# Altium footprint library WCH.PcbLib: 46 footprints (part 2 of 3)
Each footprint in its own frame and in the unit in brackets; x right, y up, seen from the top. Pads: shape width x height; smd on the part's side, far side on the other; paste and mask are expansions set on the pad; w line width, h text height; cw(c..) or ccw(c..) is an arc to the next point about the centre after c.
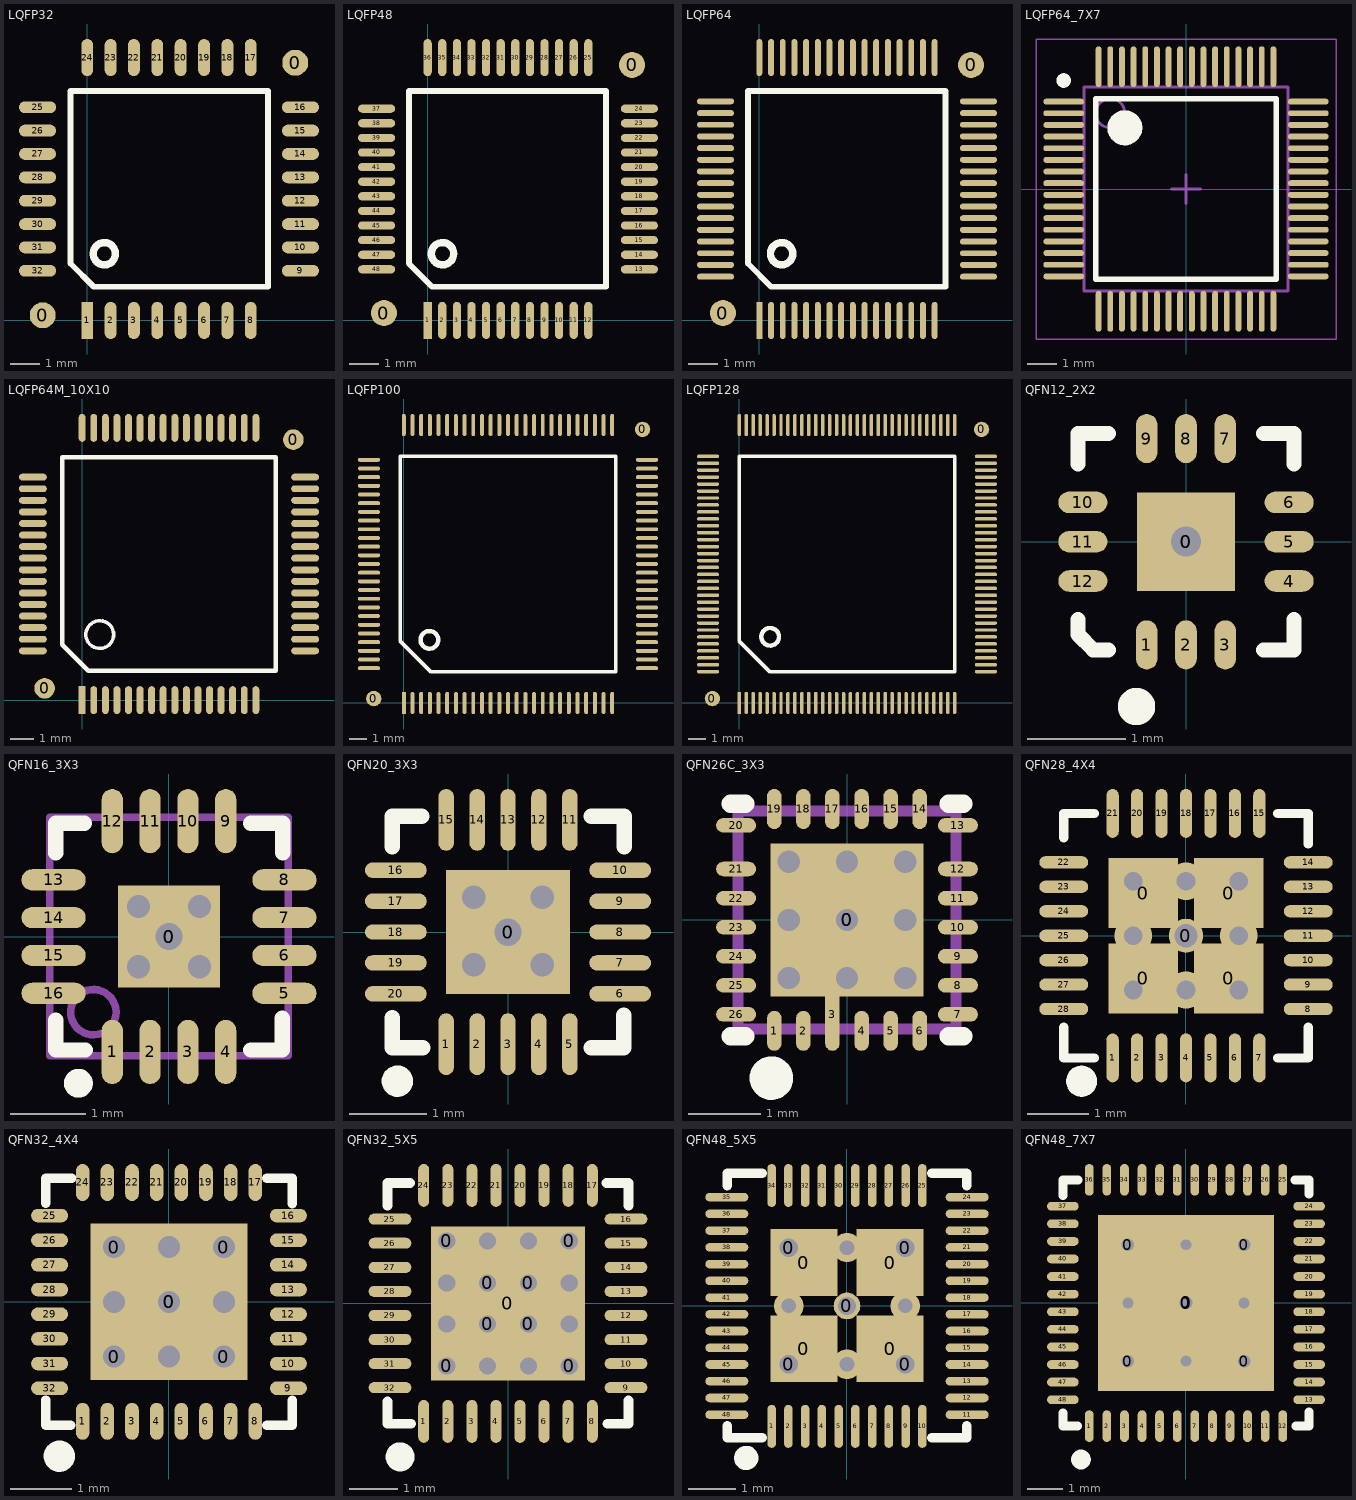
[diagram p1: the footprints below, top view; thin cyan lines are the x and y axes]

## LQFP32 [mil]
pads (34):
  round 35 smd: 0(-60,7) 0(280.47,347.47)
  rect 16x50 smd: 1(0,0)
  oval 16x50 smd: 2(31.5,0) 3(62.99,0) 4(94.49,0) 5(125.98,0) 6(157.48,0) 7(188.98,0) 8(220.47,0) 17(220.47,354.5) 18(188.98,354.5) 19(157.48,354.5) 20(125.98,354.5) 21(94.49,354.5) 22(62.99,354.5) 23(31.5,354.5) 24(0,354.5)
  oval 50x16 smd: 9(287.5,67) 10(287.5,98.5) 11(287.5,129.99) 12(287.5,161.49) 13(287.5,192.98) 14(287.5,224.48) 15(287.5,255.98) 16(287.5,287.47) 25(-67,287.47) 26(-67,255.98) 27(-67,224.48) 28(-67,192.98) 29(-67,161.49) 30(-67,129.99) 31(-67,98.5) 32(-67,67)
Top Overlay:
  circle w10: c23,90 r15
  lines w7.87: -22.42,76.66 8.83,45.42
  lines w8: -22.42,76.66 -22.42,309.42 243.58,309.42 243.58,45.42 8.83,45.42
3D body "lqfp32.step": height 59.06, standoff 0.79, extent -66.93,0.08 287.4,354.41

## LQFP48 [mm]
pads (50):
  round 0.889 smd: 0(-1.496,0.254) 0(6.996,8.746)
  rect 0.28x1.27 smd mask+0.051: 1(0,0)
  oval 0.28x1.27 smd mask+0.051: 2(0.5,0) 3(1,0) 4(1.5,0) 5(2,0) 6(2.5,0) 7(3,0) 8(3.5,0) 9(4,0) 10(4.5,0) 11(5,0) 12(5.5,0) 25(5.5,9) 26(5,9) 27(4.5,9) 28(4,9) 29(3.5,9) 30(3,9) 31(2.5,9) 32(2,9) 33(1.5,9) 34(1,9) 35(0.5,9) 36(0,9)
  oval 1.27x0.28 smd mask+0.051: 13(7.25,1.75) 14(7.25,2.25) 15(7.25,2.75) 16(7.25,3.25) 17(7.25,3.75) 18(7.25,4.25) 19(7.25,4.75) 20(7.25,5.25) 21(7.25,5.75) 22(7.25,6.25) 23(7.25,6.75) 24(7.25,7.25) 37(-1.75,7.25) 38(-1.75,6.75) 39(-1.75,6.25) 40(-1.75,5.75) 41(-1.75,5.25) 42(-1.75,4.75) 43(-1.75,4.25) 44(-1.75,3.75) 45(-1.75,3.25) 46(-1.75,2.75) 47(-1.75,2.25) 48(-1.75,1.75)
Top Overlay:
  circle w0.254: c0.508,2.286 r0.381
  lines w0.2: -0.646,1.947 0.148,1.154
  lines w0.203: -0.646,1.947 -0.646,7.859 6.111,7.859 6.111,1.154 0.148,1.154
3D body "LQFP48.STEP": height 1.6, standoff 0, extent -1.75,0 7.25,9

## LQFP64 [mm]
pads (66):
  round 0.889 smd: 0(-1.246,0.254) 0(7.246,8.746)
  rect 0.203x1.27 smd mask+0.051: 1(0,0)
  oval 0.203x1.27 smd mask+0.051: 2(0.4,0) 3(0.8,0) 4(1.2,0) 5(1.6,0) 6(2,0) 7(2.4,0) 8(2.8,0) 9(3.2,0) 10(3.6,0) 11(4,0) 12(4.4,0) 13(4.8,0) 14(5.2,0) 15(5.6,0) 16(6,0) 33(6,9) 34(5.6,9) 35(5.2,9) 36(4.8,9) 37(4.4,9) 38(4,9) 39(3.6,9) 40(3.2,9) 41(2.8,9) 42(2.4,9) 43(2,9) 44(1.6,9) 45(1.2,9) 46(0.8,9) 47(0.4,9) 48(0,9)
  oval 1.27x0.203 smd mask+0.051: 17(7.5,1.5) 18(7.5,1.9) 19(7.5,2.3) 20(7.5,2.7) 21(7.5,3.1) 22(7.5,3.5) 23(7.5,3.9) 24(7.5,4.3) 25(7.5,4.7) 26(7.5,5.1) 27(7.5,5.5) 28(7.5,5.9) 29(7.5,6.3) 30(7.5,6.7) 31(7.5,7.1) 32(7.5,7.5) 49(-1.5,7.5) 50(-1.5,7.1) 51(-1.5,6.7) 52(-1.5,6.3) 53(-1.5,5.9) 54(-1.5,5.5) 55(-1.5,5.1) 56(-1.5,4.7) 57(-1.5,4.3) 58(-1.5,3.9) 59(-1.5,3.5) 60(-1.5,3.1) 61(-1.5,2.7) 62(-1.5,2.3) 63(-1.5,1.9) 64(-1.5,1.5)
Top Overlay:
  circle w0.254: c0.762,2.286 r0.381
  lines w0.2: -0.392,1.947 0.402,1.154
  lines w0.203: -0.392,1.947 -0.392,7.859 6.365,7.859 6.365,1.154 0.402,1.154
3D body "LQFP64_7x7mm.step": height 1.55, standoff -0.03, extent -1.5,0 7.5,9

## LQFP64_7X7 [mm] "TSQFP, 64-Leads, Body 7.00x7.00mm, Pitch 0.40mm, IPC Medium Density 焊盘缩窄"
height 1.5
pads (64):
  oval 1.4x0.203 smd mask+0.051: 1(-4.2,3) 2(-4.2,2.6) 3(-4.2,2.2) 4(-4.2,1.8) 5(-4.2,1.4) 6(-4.2,1) 7(-4.2,0.6) 8(-4.2,0.2) 9(-4.2,-0.2) 10(-4.2,-0.6) 11(-4.2,-1) 12(-4.2,-1.4) 13(-4.2,-1.8) 14(-4.2,-2.2) 15(-4.2,-2.6) 16(-4.2,-3) 33(4.2,-3) 34(4.2,-2.6) 35(4.2,-2.2) 36(4.2,-1.8) 37(4.2,-1.4) 38(4.2,-1) 39(4.2,-0.6) 40(4.2,-0.2) 41(4.2,0.2) 42(4.2,0.6) 43(4.2,1) 44(4.2,1.4) 45(4.2,1.8) 46(4.2,2.2) 47(4.2,2.6) 48(4.2,3)
  oval 0.203x1.4 smd mask+0.051: 17(-3,-4.2) 18(-2.6,-4.2) 19(-2.2,-4.2) 20(-1.8,-4.2) 21(-1.4,-4.2) 22(-1,-4.2) 23(-0.6,-4.2) 24(-0.2,-4.2) 25(0.2,-4.2) 26(0.6,-4.2) 27(1,-4.2) 28(1.4,-4.2) 29(1.8,-4.2) 30(2.2,-4.2) 31(2.6,-4.2) 32(3,-4.2) 49(3,4.2) 50(2.6,4.2) 51(2.2,4.2) 52(1.8,4.2) 53(1.4,4.2) 54(1,4.2) 55(0.6,4.2) 56(0.2,4.2) 57(-0.2,4.2) 58(-0.6,4.2) 59(-1,4.2) 60(-1.4,4.2) 61(-1.8,4.2) 62(-2.2,4.2) 63(-2.6,4.2) 64(-3,4.2)
Top Overlay:
  circle w0.6: c-2.1,2.1 r0.3
  circle w0.25: c-4.2,3.725 r0.125
  lines w0.2: -3.1,-3.1 3.1,-3.1 3.1,3.1 -3.1,3.1 -3.1,-3.1
Mechanical 13:
  circle w0.1: c-2.6,2.6 r0.5
  lines w0.1: -3.5,-3.5 3.5,-3.5 3.5,3.5 -3.5,3.5 -3.5,-3.5
Mechanical 15:
  lines w0.05: -5.15,-5.15 5.15,-5.15 5.15,5.15 -5.15,5.15 -5.15,-5.15
  lines w0.1: -0.5,0 0.5,0 ; 0,-0.5 0,0.5
3D body "LQFP64_7X7.step": height 1.5, standoff 0, extent -4.5,-4.5 4.5,4.5

## LQFP64M_10X10 [mm]
pads (66):
  round 0.889 smd: 0(-1.619,0.508) 0(9.119,11.246)
  rect 0.3x1.2 smd mask+0.051: 1(0,0)
  oval 0.3x1.2 smd mask+0.051: 2(0.5,0) 3(1,0) 4(1.5,0) 5(2,0) 6(2.5,0) 7(3,0) 8(3.5,0) 9(4,0) 10(4.5,0) 11(5,0) 12(5.5,0) 13(6,0) 14(6.5,0) 15(7,0) 16(7.5,0) 33(7.5,11.754) 34(7,11.754) 35(6.5,11.754) 36(6,11.754) 37(5.5,11.754) 38(5,11.754) 39(4.5,11.754) 40(4,11.754) 41(3.5,11.754) 42(3,11.754) 43(2.5,11.754) 44(2,11.754) 45(1.5,11.754) 46(1,11.754) 47(0.5,11.754) 48(0,11.754)
  oval 1.2x0.3 smd mask+0.051: 17(9.627,2.127) 18(9.627,2.627) 19(9.627,3.127) 20(9.627,3.627) 21(9.627,4.127) 22(9.627,4.627) 23(9.627,5.127) 24(9.627,5.627) 25(9.627,6.127) 26(9.627,6.627) 27(9.627,7.127) 28(9.627,7.627) 29(9.627,8.127) 30(9.627,8.627) 31(9.627,9.127) 32(9.627,9.627) 49(-2.127,9.627) 50(-2.127,9.127) 51(-2.127,8.627) 52(-2.127,8.127) 53(-2.127,7.627) 54(-2.127,7.127) 55(-2.127,6.627) 56(-2.127,6.127) 57(-2.127,5.627) 58(-2.127,5.127) 59(-2.127,4.627) 60(-2.127,4.127) 61(-2.127,3.627) 62(-2.127,3.127) 63(-2.127,2.627) 64(-2.127,2.127)
Top Overlay:
  circle w0.152: c0.762,2.829 r0.6
  lines w0.2: -0.865,2.397 -0.865,10.492 8.365,10.492 8.365,1.262 0.27,1.262 -0.865,2.397
3D body "LQFP64.STEP": height 1.6, standoff 0, extent -2.25,-0.13 9.75,11.87

## LQFP100 [mm]
pads (102):
  round 0.889 smd: 0(-1.727,0.254) 0(13.746,15.748)
  rect 0.229x1.27 smd mask+0.051: 1(0,0)
  oval 0.229x1.27 smd mask+0.051: 2(0.5,0) 3(1,0) 4(1.5,0) 5(2,0) 6(2.5,0) 7(3,0) 8(3.5,0) 9(4,0) 10(4.5,0) 11(5,0) 12(5.5,0) 13(6,0) 14(6.5,0) 15(7,0) 16(7.5,0) 17(8,0) 18(8.5,0) 19(9,0) 20(9.5,0) 21(10,0) 22(10.5,0) 23(11,0) 24(11.5,0) 25(12,0) 51(12,16) 52(11.5,16) 53(11,16) 54(10.5,16) 55(10,16) 56(9.5,16) 57(9,16) 58(8.5,16) 59(8,16) 60(7.5,16) 61(7,16) 62(6.5,16) 63(6,16) 64(5.5,16) 65(5,16) 66(4.5,16) 67(4,16) 68(3.5,16) 69(3,16) 70(2.5,16) 71(2,16) 72(1.5,16) 73(1,16) 74(0.5,16) 75(0,16)
  oval 1.27x0.229 smd mask+0.051: 26(14,2) 27(14,2.5) 28(14,3) 29(14,3.5) 30(14,4) 31(14,4.5) 32(14,5) 33(14,5.5) 34(14,6) 35(14,6.5) 36(14,7) 37(14,7.5) 38(14,8) 39(14,8.5) 40(14,9) 41(14,9.5) 42(14,10) 43(14,10.5) 44(14,11) 45(14,11.5) 46(14,12) 47(14,12.5) 48(14,13) 49(14,13.5) 50(14,14) 76(-2,14) 77(-2,13.5) 78(-2,13) 79(-2,12.5) 80(-2,12) 81(-2,11.5) 82(-2,11) 83(-2,10.5) 84(-2,10) 85(-2,9.5) 86(-2,9) 87(-2,8.5) 88(-2,8) 89(-2,7.5) 90(-2,7) 91(-2,6.5) 92(-2,6) 93(-2,5.5) 94(-2,5) 95(-2,4.5) 96(-2,4) 97(-2,3.5) 98(-2,3) 99(-2,2.5) 100(-2,2)
Top Overlay:
  circle w0.254: c1.473,3.632 r0.508
  lines w0.2: -0.215,3.57 -0.215,14.215 12.215,14.215 12.215,1.785 1.57,1.785 -0.215,3.57
3D body "LQFP100.STEP": height 1.62, standoff -0.01, extent -2.072,-0.072 14.072,16.072

## LQFP128 [mm]
pads (130):
  round 0.889 smd: 0(-1.546,0.254) 0(13.946,15.746)
  rect 0.2x1.27 smd mask+0.051: 1(0,0)
  oval 0.2x1.27 smd mask+0.051: 2(0.4,0) 3(0.8,0) 4(1.2,0) 5(1.6,0) 6(2,0) 7(2.4,0) 8(2.8,0) 9(3.2,0) 10(3.6,0) 11(4,0) 12(4.4,0) 13(4.8,0) 14(5.2,0) 15(5.6,0) 16(6,0) 17(6.4,0) 18(6.8,0) 19(7.2,0) 20(7.6,0) 21(8,0) 22(8.4,0) 23(8.8,0) 24(9.2,0) 25(9.6,0) 26(10,0) 27(10.4,0) 28(10.8,0) 29(11.2,0) 30(11.6,0) 31(12,0) 32(12.4,0) 65(12.4,16) 66(12,16) 67(11.6,16) 68(11.2,16) 69(10.8,16) 70(10.4,16) 71(10,16) 72(9.6,16) 73(9.2,16) 74(8.8,16) 75(8.4,16) 76(8,16) 77(7.6,16) 78(7.2,16) 79(6.8,16) 80(6.4,16) 81(6,16) 82(5.6,16) 83(5.2,16) 84(4.8,16) 85(4.4,16) 86(4,16) 87(3.6,16) 88(3.2,16) 89(2.8,16) 90(2.4,16) 91(2,16) 92(1.6,16) 93(1.2,16) 94(0.8,16) 95(0.4,16) 96(0,16)
  oval 1.27x0.2 smd mask+0.051: 33(14.2,1.8) 34(14.2,2.2) 35(14.2,2.6) 36(14.2,3) 37(14.2,3.4) 38(14.2,3.8) 39(14.2,4.2) 40(14.2,4.6) 41(14.2,5) 42(14.2,5.4) 43(14.2,5.8) 44(14.2,6.2) 45(14.2,6.6) 46(14.2,7) 47(14.2,7.4) 48(14.2,7.8) 49(14.2,8.2) 50(14.2,8.6) 51(14.2,9) 52(14.2,9.4) 53(14.2,9.8) 54(14.2,10.2) 55(14.2,10.6) 56(14.2,11) 57(14.2,11.4) 58(14.2,11.8) 59(14.2,12.2) 60(14.2,12.6) 61(14.2,13) 62(14.2,13.4) 63(14.2,13.8) 64(14.2,14.2) 97(-1.8,14.2) 98(-1.8,13.8) 99(-1.8,13.4) 100(-1.8,13) 101(-1.8,12.6) 102(-1.8,12.2) 103(-1.8,11.8) 104(-1.8,11.4) 105(-1.8,11) 106(-1.8,10.6) 107(-1.8,10.2) 108(-1.8,9.8) 109(-1.8,9.4) 110(-1.8,9) 111(-1.8,8.6) 112(-1.8,8.2) 113(-1.8,7.8) 114(-1.8,7.4) 115(-1.8,7) 116(-1.8,6.6) 117(-1.8,6.2) 118(-1.8,5.8) 119(-1.8,5.4) 120(-1.8,5) 121(-1.8,4.6) 122(-1.8,4.2) 123(-1.8,3.8) 124(-1.8,3.4) 125(-1.8,3) 126(-1.8,2.6) 127(-1.8,2.2) 128(-1.8,1.8)
Top Overlay:
  circle w0.254: c1.778,3.81 r0.508
  lines w0.2: -0.015,3.57 1.77,1.785 12.415,1.785 12.415,14.215 -0.015,14.215 -0.015,3.57
3D body "LQFP128.step": height 1.6, standoff 0, extent -1.8,0 14.2,16

## QFN12_2X2 [mm]
pads (14):
  rect 1x1 smd paste+0 mask+0.051: 0(0,0)
  round 0.508 hole 0.305 mask+0.102: 0(0,0)
  oval 0.22x0.5 smd mask+0.051: 1(-0.4,-1.05) 2(0,-1.05) 3(0.4,-1.05) 7(0.4,1.05) 8(0,1.05) 9(-0.4,1.05)
  oval 0.5x0.22 smd mask+0.051: 4(1.05,-0.4) 5(1.05,0) 6(1.05,0.4) 10(-1.05,0.4) 11(-1.05,0) 12(-1.05,-0.4)
Top Overlay:
  circle w0.229: c-0.504,-1.677 r0.076
  lines w0.152: -1.1,-0.789 -1.1,-0.945 -0.945,-1.1 -0.789,-1.1 ; -1.1,0.789 -1.1,1.1 -0.789,1.1 ; 0.789,-1.1 1.1,-1.1 1.1,-0.789 ; 0.789,1.1 1.1,1.1 1.1,0.789
3D body "QFN12_2x2.step": height 0.6, standoff 0, extent -1.051,-1.051 1.051,1.051

## QFN16_3X3 [mm]
pads (18):
  rect 1.35x1.35 smd mask+0.051: 0(0,0)
  round 0.508 hole 0.356: 0(0,0)
  oval 0.28x0.85 smd mask+0.051: 1(-0.75,-1.526) 2(-0.25,-1.526) 3(0.25,-1.526) 4(0.75,-1.526) 9(0.75,1.526) 10(0.25,1.526) 11(-0.25,1.526) 12(-0.75,1.526)
  oval 0.85x0.28 smd mask+0.051: 5(1.526,-0.75) 6(1.526,-0.25) 7(1.526,0.25) 8(1.526,0.75) 13(-1.526,0.75) 14(-1.526,0.25) 15(-1.526,-0.25) 16(-1.526,-0.75)
via -0.405,0.399 diameter 0.508 hole 0.305
via 0.405,0.399 diameter 0.508 hole 0.305
via 0.405,-0.399 diameter 0.508 hole 0.305
via -0.405,-0.399 diameter 0.508 hole 0.305
Top Overlay:
  circle w0.229: c-1.198,-1.94 r0.076
  lines w0.203: -1.497,-1.108 -1.497,-1.5 -1.105,-1.5 ; -1.497,1.105 -1.497,1.5 -1.118,1.5 ; 1.079,-1.5 1.5,-1.5 1.5,-1.08 ; 1.082,1.5 1.503,1.5 1.503,1.108
Mechanical 13:
  circle w0.1: c-1,-1 r0.3
  lines w0.1: -1.575,-1.575 1.575,-1.575 1.575,1.575 -1.575,1.575 -1.575,-1.575
3D body "QFN-16_3x3.step": height 0.9, standoff 0, extent -1.501,-1.501 1.501,1.501

## QFN20_3X3 [mm]
pads (22):
  rect 1.6x1.6 smd mask+0.051: 0(0,0)
  round 0.508 hole 0.356: 0(0,0)
  oval 0.2x0.8 smd mask+0.051: 1(-0.8,-1.451) 2(-0.4,-1.451) 3(0,-1.451) 4(0.4,-1.451) 5(0.8,-1.451) 11(0.8,1.451) 12(0.4,1.451) 13(0,1.451) 14(-0.4,1.451) 15(-0.8,1.451)
  oval 0.8x0.2 smd mask+0.051: 6(1.451,-0.8) 7(1.451,-0.4) 8(1.451,0) 9(1.451,0.4) 10(1.451,0.8) 16(-1.451,0.8) 17(-1.451,0.4) 18(-1.451,0) 19(-1.451,-0.4) 20(-1.451,-0.8)
via 0.442,0.449 diameter 0.508 hole 0.305
via -0.442,-0.422 diameter 0.508 hole 0.305
via -0.442,0.449 diameter 0.508 hole 0.305
via 0.442,-0.422 diameter 0.508 hole 0.305
Top Overlay:
  circle w0.203: c-1.431,-1.93 r0.102
  lines w0.203: -1.497,-1.108 -1.497,-1.5 -1.105,-1.5 ; -1.497,1.105 -1.497,1.5 -1.118,1.5 ; 1.079,-1.5 1.5,-1.5 1.5,-1.08 ; 1.082,1.5 1.503,1.5 1.503,1.108
3D body "QFN20-3x3.STEP": height 0.81, standoff 0, extent -1.51,-1.51 1.51,1.51

## QFN26C_3X3 [mm]
pads (28):
  rect 2.1x2.1 smd mask+0.051: 0(0,0)
  round 0.6 hole 0.3 mask+0.051: 0(0,0)
  oval 0.2x0.55 smd mask+0.051: 1(-1,-1.525) 2(-0.6,-1.525) 4(0.2,-1.525) 5(0.6,-1.525) 6(1,-1.525) 14(1,1.525) 15(0.6,1.525) 16(0.2,1.525) 17(-0.2,1.525) 18(-0.6,1.525) 19(-1,1.525)
  oval 0.2x1 smd mask+0.051: 3(-0.2,-1.3)
  oval 0.55x0.2 smd mask+0.051: 7(1.525,-1.3) 8(1.525,-0.9) 9(1.525,-0.5) 10(1.525,-0.1) 11(1.525,0.3) 12(1.525,0.7) 13(1.525,1.3) 20(-1.525,1.3) 21(-1.525,0.7) 22(-1.525,0.3) 23(-1.525,-0.1) 24(-1.525,-0.5) 25(-1.525,-0.9) 26(-1.525,-1.3)
via -0.8,0.8 diameter 0.508 hole 0.305
via 0,0.8 diameter 0.508 hole 0.305
via 0.8,0.8 diameter 0.508 hole 0.305
via 0.8,0 diameter 0.508 hole 0.305
via 0.8,-0.8 diameter 0.508 hole 0.305
via 0,-0.8 diameter 0.508 hole 0.305
via -0.8,-0.8 diameter 0.508 hole 0.305
via -0.8,0 diameter 0.508 hole 0.305
Top Overlay:
  circle w0.3: c-1.04,-2.175 r0.15
  lines w0.254: -1.6,-1.6 -1.4,-1.6 ; -1.6,1.6 -1.4,1.6 ; 1.4,-1.6 1.6,-1.6 ; 1.4,1.6 1.6,1.6
Mechanical 15:
  lines w0.15: -1.5,-1.5 -1.5,1.5 1.5,1.5 1.5,-1.5 -1.5,-1.5
3D body "QFN-26C_3x3.STEP": height 0.75, standoff 0, extent -1.51,-1.51 1.51,1.51

## QFN28_4X4 [mm]
pads (33):
  rect 1.143x1.143 smd mask+0: 0(-0.699,-0.699) 0(-0.699,0.698) 0(0.699,-0.699) 0(0.699,0.698)
  round 0.559 hole 0.381 mask+0.051: 0(0,0)
  oval 0.2x0.8 smd mask+0.051: 1(-1.2,-2) 2(-0.8,-2) 3(-0.4,-2) 4(0,-2) 5(0.4,-2) 6(0.8,-2) 7(1.2,-2) 15(1.2,2) 16(0.8,2) 17(0.4,2) 18(0,2) 19(-0.4,2) 20(-0.8,2) 21(-1.2,2)
  oval 0.8x0.2 smd mask+0.051: 8(2,-1.2) 9(2,-0.8) 10(2,-0.4) 11(2,0) 12(2,0.4) 13(2,0.8) 14(2,1.2) 22(-2,1.2) 23(-2,0.8) 24(-2,0.4) 25(-2,0) 26(-2,-0.4) 27(-2,-0.8) 28(-2,-1.2)
via -0.864,-0.889 diameter 0.61 hole 0.305
via 0.864,-0.889 diameter 0.61 hole 0.305
via 0.864,0.889 diameter 0.61 hole 0.305
via -0.864,0.889 diameter 0.61 hole 0.305
via -0.864,0 diameter 0.61 hole 0.305
via 0.864,0 diameter 0.61 hole 0.305
via 0,-0.889 diameter 0.61 hole 0.305
via 0,0.889 diameter 0.61 hole 0.305
Top Overlay:
  circle w0.254: c-1.708,-2.381 r0.127
  lines w0.152: -2,-1.5 -2,-2 -1.5,-2 ; -2,1.6 -2,2 -1.5,2 ; 1.5,-2 2,-2 2,-1.5 ; 1.5,2 2,2 2,1.5
3D body "QFN28-4x4.STEP": height 0.75, standoff 0, extent -2,-2 2,2

## QFN32_4X4 [mm]
pads (38):
  round 0.508 hole 0.356: 0(-0.889,-0.887) 0(-0.889,0.887) 0(0,0) 0(0.889,-0.887) 0(0.889,0.887)
  rect 2.54x2.54 smd mask+0.051: 0(0,0)
  oval 0.22x0.6 smd mask+0.051: 1(-1.4,-1.936) 2(-1,-1.936) 3(-0.6,-1.936) 4(-0.2,-1.936) 5(0.2,-1.936) 6(0.6,-1.936) 7(1,-1.936) 8(1.4,-1.936) 17(1.4,1.936) 18(1,1.936) 19(0.6,1.936) 20(0.2,1.936) 21(-0.2,1.936) 22(-0.6,1.936) 23(-1,1.936) 24(-1.4,1.936)
  oval 0.6x0.22 smd mask+0.051: 9(1.936,-1.4) 10(1.936,-1) 11(1.936,-0.6) 12(1.936,-0.2) 13(1.936,0.2) 14(1.936,0.6) 15(1.936,1) 16(1.936,1.4) 25(-1.936,1.4) 26(-1.936,1) 27(-1.936,0.6) 28(-1.936,0.2) 29(-1.936,-0.2) 30(-1.936,-0.6) 31(-1.936,-1) 32(-1.936,-1.4)
via 0,0.887 diameter 0.508 hole 0.356
via -0.889,0 diameter 0.508 hole 0.356
via 0,-0.887 diameter 0.508 hole 0.356
via 0.889,0 diameter 0.508 hole 0.356
Top Overlay:
  circle w0.254: c-1.78,-2.502 r0.127
  lines w0.152: -2.001,-1.591 -2.001,-1.998 -1.595,-1.998 ; -2.001,1.602 -2.001,2.002 -1.574,2.002 ; 1.583,2.002 1.999,2.002 1.999,1.59 ; 1.585,-1.998 1.999,-1.998 1.999,-1.593
3D body "QFN32-4x4.STEP": height 1.01, standoff 0.01, extent -2.005,-2.005 2.005,2.005

## QFN32_5X5 [mil]
pads (41):
  round 20 hole 14: 0(-50.12,-51.11) 0(-50.12,51.11) 0(-16.71,-16.7) 0(-16.71,16.7) 0(16.71,-16.7) 0(16.71,16.7) 0(50.12,-51.11) 0(50.12,51.11)
  rect 125.98x125.98 smd mask+2: 0(0,0)
  oval 9x35 smd mask+2: 1(-68.9,-96.49) 2(-49.21,-96.49) 3(-29.53,-96.49) 4(-9.84,-96.49) 5(9.84,-96.49) 6(29.53,-96.49) 7(49.21,-96.49) 8(68.9,-96.49) 17(68.9,96.49) 18(49.21,96.49) 19(29.53,96.49) 20(9.84,96.49) 21(-9.84,96.49) 22(-29.53,96.49) 23(-49.21,96.49) 24(-68.9,96.49)
  oval 35x9 smd mask+2: 9(96.49,-68.9) 10(96.49,-49.21) 11(96.49,-29.53) 12(96.49,-9.84) 13(96.49,9.84) 14(96.49,29.53) 15(96.49,49.21) 16(96.49,68.9) 25(-96.49,68.9) 26(-96.49,49.21) 27(-96.49,29.53) 28(-96.49,9.84) 29(-96.49,-9.84) 30(-96.49,-29.53) 31(-96.49,-49.21) 32(-96.49,-68.9)
via -50.12,16.7 diameter 20 hole 14
via -50.12,-16.7 diameter 20 hole 14
via -16.71,-51.11 diameter 20 hole 14
via 16.71,-51.11 diameter 20 hole 14
via 50.12,-16.7 diameter 20 hole 14
via 50.12,16.7 diameter 20 hole 14
via 16.71,51.11 diameter 20 hole 14
via -16.71,51.11 diameter 20 hole 14
Top Overlay:
  circle w12: c-88.22,-125.47 r5.84
  lines w8: -98.43,-80.19 -98.43,-98.43 -79.38,-98.43 ; -98.43,79.88 -98.43,98.43 -80.12,98.43 ; 80.43,98.43 98.42,98.43 98.42,79.79 ; 81.23,-98.43 98.42,-98.43 98.42,-79.42
3D body "QFN32-5x5.step": height 32.68, standoff -3.94, extent -98.43,-98.44 98.43,98.44

## QFN48_5X5 [mm]
pads (57):
  round 0.559 hole 0.381 mask+0.102: 0(-1.219,-1.219) 0(-1.219,1.219) 0(0,0) 0(1.219,-1.219) 0(1.219,1.219)
  rect 1.397x1.397 smd mask+0: 0(-0.901,-0.895) 0(-0.901,0.908) 0(0.902,-0.895) 0(0.902,0.908)
  oval 0.18x0.9 smd mask+0.051: 1(-1.575,-2.519) 2(-1.225,-2.519) 3(-0.875,-2.519) 4(-0.525,-2.519) 5(-0.175,-2.519) 6(0.175,-2.519) 7(0.525,-2.519) 8(0.875,-2.519) 9(1.225,-2.519) 10(1.575,-2.519) 25(1.575,2.519) 26(1.225,2.519) 27(0.875,2.519) 28(0.525,2.519) 29(0.175,2.519) 30(-0.175,2.519) 31(-0.525,2.519) 32(-0.875,2.519) 33(-1.225,2.519) 34(-1.575,2.519)
  oval 0.9x0.18 smd mask+0.051: 11(2.514,-2.275) 12(2.514,-1.925) 13(2.514,-1.575) 14(2.514,-1.225) 15(2.514,-0.875) 16(2.514,-0.525) 17(2.514,-0.175) 18(2.514,0.175) 19(2.514,0.525) 20(2.514,0.875) 21(2.514,1.225) 22(2.514,1.575) 23(2.514,1.925) 24(2.514,2.275) 35(-2.514,2.275) 36(-2.514,1.925) 37(-2.514,1.575) 38(-2.514,1.225) 39(-2.514,0.875) 40(-2.514,0.525) 41(-2.514,0.175) 42(-2.514,-0.175) 43(-2.514,-0.525) 44(-2.514,-0.875) 45(-2.514,-1.225) 46(-2.514,-1.575) 47(-2.514,-1.925) 48(-2.514,-2.275)
via 1.219,0 diameter 0.61 hole 0.305
via 0,-1.219 diameter 0.61 hole 0.305
via -1.219,0 diameter 0.61 hole 0.305
via 0,1.219 diameter 0.61 hole 0.305
Top Overlay:
  circle w0.254: c-2.108,-3.179 r0.127
  lines w0.2: -2.509,-2.506 -2.509,-2.76 -1.778,-2.76 ; -2.509,2.519 -2.509,2.772 -1.778,2.772 ; 1.778,-2.76 2.509,-2.76 2.509,-2.506 ; 1.778,2.772 2.509,2.772 2.509,2.519
3D body "QFN-48_5x5.step": height 0.55, standoff -0.02, extent -2.51,-2.51 2.51,2.51

## QFN48_7X7 [mm]
pads (54):
  round 0.559 hole 0.356 mask+0.102: 0(-1.651,-1.651) 0(-1.651,1.651) 0(0,0) 0(1.651,-1.651) 0(1.651,1.651)
  rect 5x5 smd mask+0.051: 0(0,0)
  oval 0.25x0.9 smd mask+0.051: 1(-2.75,-3.5) 2(-2.25,-3.5) 3(-1.75,-3.5) 4(-1.25,-3.5) 5(-0.75,-3.5) 6(-0.25,-3.5) 7(0.25,-3.5) 8(0.75,-3.5) 9(1.25,-3.5) 10(1.75,-3.5) 11(2.25,-3.5) 12(2.75,-3.5) 25(2.75,3.5) 26(2.25,3.5) 27(1.75,3.5) 28(1.25,3.5) 29(0.75,3.5) 30(0.25,3.5) 31(-0.25,3.5) 32(-0.75,3.5) 33(-1.25,3.5) 34(-1.75,3.5) 35(-2.25,3.5) 36(-2.75,3.5)
  oval 0.9x0.25 smd mask+0.051: 13(3.5,-2.75) 14(3.5,-2.25) 15(3.5,-1.75) 16(3.5,-1.25) 17(3.5,-0.75) 18(3.5,-0.25) 19(3.5,0.25) 20(3.5,0.75) 21(3.5,1.25) 22(3.5,1.75) 23(3.5,2.25) 24(3.5,2.75) 37(-3.5,2.75) 38(-3.5,2.25) 39(-3.5,1.75) 40(-3.5,1.25) 41(-3.5,0.75) 42(-3.5,0.25) 43(-3.5,-0.25) 44(-3.5,-0.75) 45(-3.5,-1.25) 46(-3.5,-1.75) 47(-3.5,-2.25) 48(-3.5,-2.75)
via -1.651,0 diameter 0.61 hole 0.305
via 0,1.651 diameter 0.61 hole 0.305
via 1.651,0 diameter 0.61 hole 0.305
via 0,-1.651 diameter 0.61 hole 0.305
Top Overlay:
  circle w0.305: c-2.986,-4.451 r0.127
  lines w0.254: -3.5,-3.128 -3.5,-3.5 -3.082,-3.5 ; -3.5,3.057 -3.5,3.5 -3.066,3.5 ; 3.099,3.5 3.5,3.5 3.5,3.096 ; 3.126,-3.5 3.5,-3.5 3.5,-3.104
3D body "QFN48_7x7.step": height 0.78, standoff -0.02, extent -3.51,-3.51 3.51,3.51